# Altium footprint library Transistor.PcbLib: 8 footprints
Each footprint in its own frame and in the unit in brackets; x right, y up, seen from the top. Pads: shape width x height; smd on the part's side, far side on the other; paste and mask are expansions set on the pad; w line width, h text height; cw(c..) or ccw(c..) is an arc to the next point about the centre after c.
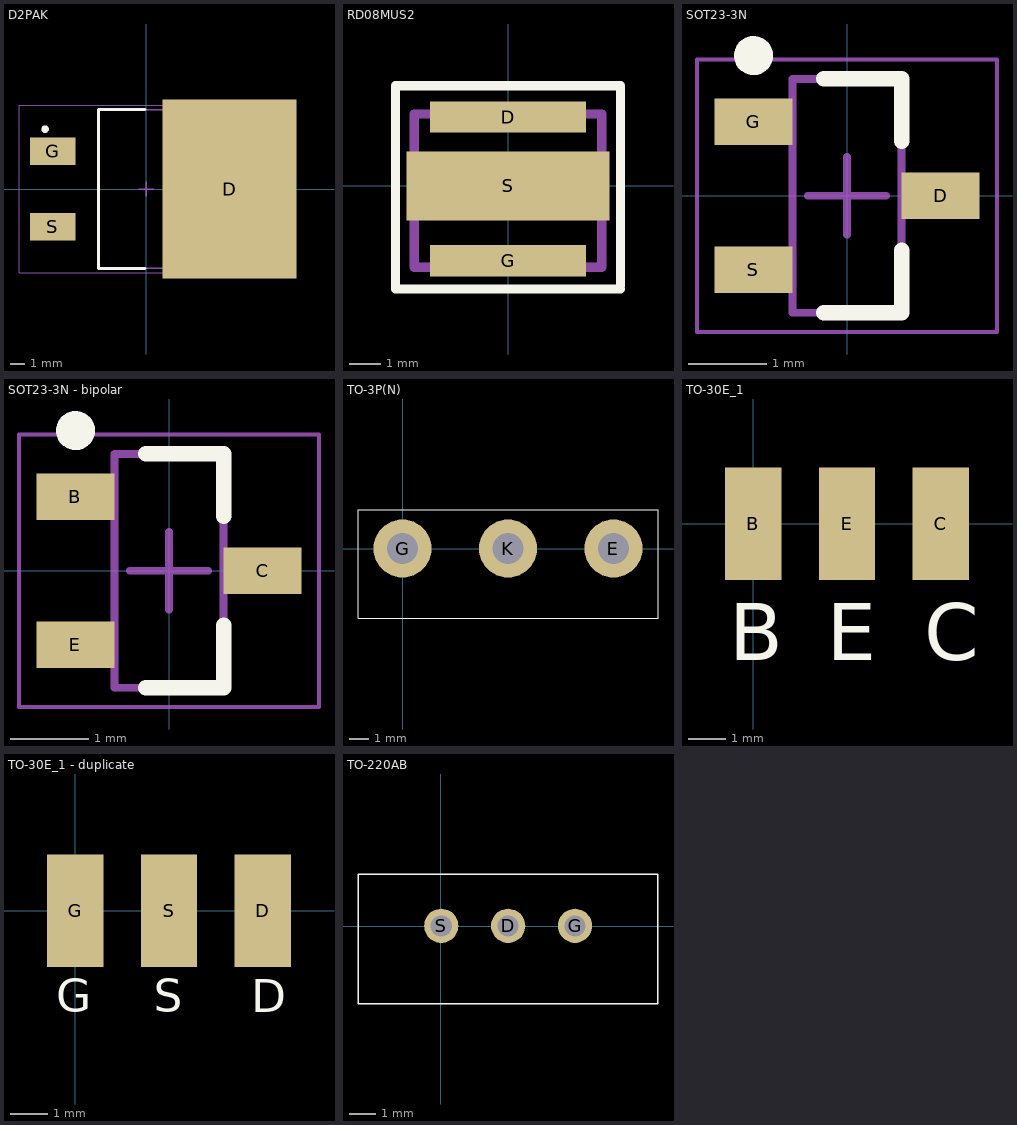
[diagram p0: the footprints below, top view; thin cyan lines are the x and y axes]

## D2PAK [mm] "D2-PAK, 3-Pads, Body 7,93x8,70mm (max), IPC Medium Density"
height 4.83
pads (3):
  rect 9x12 smd: D(5.588,0)
  rect 3.05x1.85 smd: G(-6.292,2.54) S(-6.292,-2.54)
Top Overlay:
  circle w0.25: c-6.8,4.015 r0.125
  lines w0.2: -0.1,-5.35 -3.2,-5.35 -3.2,5.35 -0.1,5.35
Mechanical 13:
  lines w0.1: -3.2,-5.325 -3.2,5.325 6.45,5.325 6.45,-5.325 -3.2,-5.325
Mechanical 15:
  lines w0.05: -8.55,-5.625 -8.55,5.625 8.55,5.625 8.55,-5.625 -8.55,-5.625
  lines w0.1: -0.5,0 0.5,0 ; 0,-0.5 0,0.5
3D body "DPAK254P1524X483-3N.step": height 4.83, standoff 0, extent -6.36,-5.325 8.885,5.325

## RD08MUS2 [mm]
pads (3):
  rect 5x1 smd: D(0,2.2) G(0,-2.4)
  rect 6.5x2.2 smd: S(0,0)
Top Overlay:
  lines w0.3: 3.6,-3.3 -3.6,-3.3 -3.6,3.2 3.6,3.2 3.6,-3.2
Mechanical 15:
  lines w0.3: -3,-2.6 -3,2.3 3,2.3 3,-2.6 -3,-2.6
3D body: height 0.75, standoff 0, extent -3,-2.6 3,2.3

## SOT23-3N [mm] "SOT23, 3-Leads, Body 2,90x2,45mm, Pitch 0,95mm, IPC Medium Density"
height 1.1
pads (3):
  rect 1x0.6 smd: D(1.2,0) G(-1.2,0.95) S(-1.2,-0.95)
Top Overlay:
  circle w0.25: c-1.2,1.8 r0.125
  lines w0.2: -0.3,-1.5 0.7,-1.5 0.7,-0.7 ; -0.3,1.5 0.7,1.5 0.7,0.7
Mechanical 13:
  lines w0.1: -0.7,-1.5 -0.7,1.5 0.7,1.5 0.7,-1.5 -0.7,-1.5
Mechanical 15:
  lines w0.05: -1.925,-1.75 -1.925,1.75 1.925,1.75 1.925,-1.75 -1.925,-1.75
  lines w0.1: -0.5,0 0.5,0 ; 0,-0.5 0,0.5
3D body "SOT95P245X110-3N.step": height 1.1, standoff 0, extent -1.3,-1.5 1.3,1.5

## SOT23-3N - bipolar [mm] "SOT23, 3-Leads, Body 2,90x2,45mm, Pitch 0,95mm, IPC Medium Density"
height 1.1
pads (3):
  rect 1x0.6 smd: B(-1.2,0.95) C(1.2,0) E(-1.2,-0.95)
Top Overlay:
  circle w0.25: c-1.2,1.8 r0.125
  lines w0.2: -0.3,-1.5 0.7,-1.5 0.7,-0.7 ; -0.3,1.5 0.7,1.5 0.7,0.7
Mechanical 13:
  lines w0.1: -0.7,-1.5 0.7,-1.5 0.7,1.5 -0.7,1.5 -0.7,-1.5
Mechanical 15:
  lines w0.05: -1.925,-1.75 1.925,-1.75 1.925,1.75 -1.925,1.75 -1.925,-1.75
  lines w0.1: -0.5,0 0.5,0 ; 0,-0.5 0,0.5
3D body "SOT95P245X110-3N.step": height 1.1, standoff 0, extent -1.3,-1.5 1.3,1.5

## TO-3P(N) [mm]
pads (3):
  round 3 hole 1.6: E(10.9,0) G(0,0) K(5.45,0)
Top Overlay:
  lines w0.01: -2.3,-3.6 13.2,-3.6 13.2,2 -2.3,2 -2.3,-3.6

## TO-30E_1 [mm]
pads (3):
  rect 1.5x3 smd: B(0,0) C(5,0) E(2.5,0)
Top Overlay:
  text "C" at 4.554,-3.646 h1.52
  text "B" at -0.646,-3.646 h1.52
  text "E" at 1.954,-3.646 h1.52

## TO-30E_1 - duplicate [mm]
pads (3):
  rect 1.5x3 smd: D(5,0) G(0,0) S(2.5,0)
Top Overlay:
  text "S" at 2.1,-2.983 h1.52
  text "G" at -0.5,-2.983 h1.52
  text "D" at 4.7,-3 h1.52

## TO-220AB [mm]
pads (3):
  round 1.3 hole 0.8: D(2.55,0.02) G(5.09,0.02) S(0.01,0.02)
Top Overlay:
  lines w0.05: -3.15,-2.93 -3.15,1.97 8.24,1.97 8.24,-2.93 -3.15,-2.93